# Altium footprint library SAMTEC_MTSW-105-X-X-D-X.PcbLib: 1 footprints
Each footprint in its own frame and in the unit in brackets; x right, y up, seen from the top. Pads: shape width x height; smd on the part's side, far side on the other; paste and mask are expansions set on the pad; w line width, h text height; cw(c..) or ccw(c..) is an arc to the next point about the centre after c.
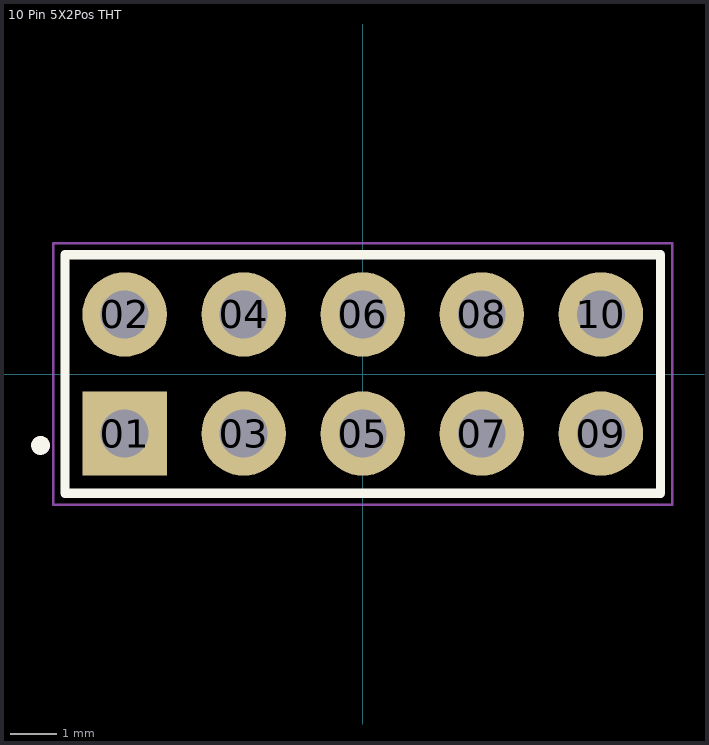
[diagram p0: the footprint, top view; thin cyan lines are the x and y axes]

## 10 Pin 5X2Pos THT [mm] "10 Pin 5X2Pos THT BergeStick 2.54MM MTSW-105-X-X-D-X"
pads (10):
  rect 1.8x1.8 hole 1.02: 01(-5.08,-1.27)
  round 1.8 hole 1.02: 02(-5.08,1.27) 03(-2.54,-1.27) 04(-2.54,1.27) 05(0,-1.27) 06(0,1.27) 07(2.54,-1.27) 08(2.54,1.27) 09(5.08,-1.27) 10(5.08,1.27)
Top Overlay:
  circle w0.2: c-6.873,-1.524 r0.1
  lines w0.2: -6.35,-2.54 -6.35,2.54 6.35,2.54 6.35,-2.54 -6.35,-2.54
Mechanical 13:
  circle w0.2: c-6.873,-1.524 r0.1
  lines w0.1: -6.35,-2.54 6.35,-2.54 6.35,2.54 -6.35,2.54 -6.35,-2.54
Mechanical 15:
  lines w0.05: -6.6,-2.79 -6.6,2.79 6.6,2.79 6.6,-2.79 -6.6,-2.79